# EAGLE library part TPS719XXSON (library xess)
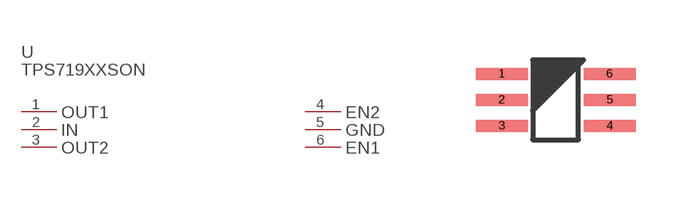
[diagram p85: symbol with the pads of TPS719XXSON; footprint TPS719XXSON]

Designator prefix U; gates PART_VALUE=PART_VALUE-TPS719XXSON OUT1=PL-TPS719XXSON IN=PL-TPS719XXSON OUT2=PL-TPS719XXSON EN2=PL-TPS719XXSON GND=PL-TPS719XXSON EN1=PL-TPS719XXSON

## TPS719XXSON  [TPS719XXSON]
1  OUT1:P$1
2  IN:P$1
3  OUT2:P$1
4  EN2:P$1
5  GND:P$1
6  EN1:P$1

## Footprint TPS719XXSON (pad centres in mm)
smd 1.3 x 0.3: 1 -0.5,0; 2 -0.5,-0.65; 3 -0.5,-1.3; 4 2.2,-1.3; 5 2.2,-0.65; 6 2.2,0